# Altium footprint library TRANS_ETD_34.PcbLib: 1 footprints
Each footprint in its own frame and in the unit in brackets; x right, y up, seen from the top. Pads: shape width x height; smd on the part's side, far side on the other; paste and mask are expansions set on the pad; w line width, h text height; cw(c..) or ccw(c..) is an arc to the next point about the centre after c.
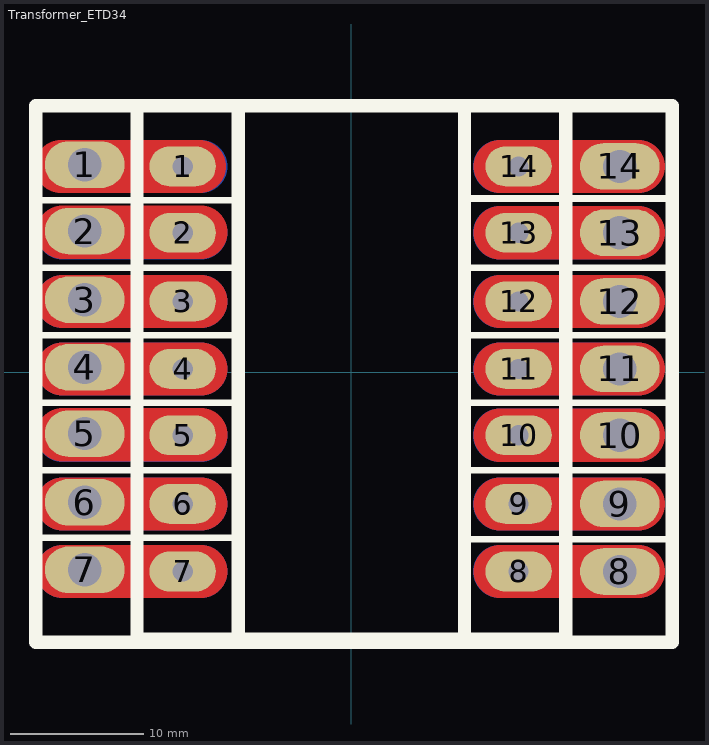
[diagram p0: the footprint, top view; thin cyan lines are the x and y axes]

## Transformer_ETD34 [mm]
pads (28):
  oval 6x3.5 hole 2.5: 1(-20.066,15.621) 2(-20.066,10.627) 3(-20.066,5.461) 4(-20.066,0.381) 5(-20.066,-4.613) 6(-20.066,-9.779) 7(-20.066,-14.859) 8(20.193,-14.986) 9(20.193,-9.906) 10(20.193,-4.74) 11(20.193,0.254) 12(20.193,5.334) 13(20.193,10.5) 14(20.193,15.494)
  oval 5x3 hole 1.524: 1(-12.7,15.494) 2(-12.7,10.5) 3(-12.7,5.334) 4(-12.7,0.254) 5(-12.7,-4.74) 6(-12.7,-9.906) 7(-12.7,-14.986) 8(12.573,-14.986) 9(12.573,-9.906) 10(12.573,-4.74) 11(12.573,0.254) 12(12.573,5.334) 13(12.573,10.5) 14(12.573,15.494)
Top Layer:
  lines w4: -21.844,15.494 -11.447,15.494 ; -21.717,-14.986 -11.32,-14.986 ; -21.717,-9.906 -11.32,-9.906 ; -21.717,-4.699 -11.32,-4.699 ; -21.717,0.254 -11.32,0.254 ; -21.717,5.334 -11.32,5.334 ; -21.717,10.541 -11.32,10.541 ; 11.176,-14.986 21.573,-14.986 ; 11.176,-9.906 21.573,-9.906 ; 11.176,-4.74 21.573,-4.74 ; 11.176,0.254 21.573,0.254 ; 11.176,5.334 21.573,5.334 ; 11.176,10.5 21.573,10.5 ; 11.176,15.494 21.573,15.494
Bottom Layer:
  lines w4: -21.734,-14.986 -11.337,-14.986 ; -21.734,-9.906 -11.337,-9.906 ; -21.734,-4.74 -11.337,-4.74 ; -21.734,0.254 -11.337,0.254 ; -21.734,5.334 -11.337,5.334 ; -21.734,10.5 -11.337,10.5 ; -21.734,15.494 -11.337,15.494 ; 11.159,-14.986 21.556,-14.986 ; 11.159,-9.906 21.556,-9.906 ; 11.159,-4.74 21.556,-4.74 ; 11.159,0.254 21.556,0.254 ; 11.159,5.334 21.556,5.334 ; 11.159,10.5 21.556,10.5 ; 11.159,15.494 21.556,15.494
Top Overlay:
  lines w0.5: -23.622,-12.446 -8.509,-12.446 ; -23.622,-7.366 -8.509,-7.366 ; -23.622,12.954 -8.509,12.954 ; -23.495,-2.286 -8.382,-2.286 ; -23.495,2.794 -8.382,2.794 ; -23.495,7.874 -8.382,7.874 ; 8.509,-12.573 23.622,-12.573 ; 8.509,-7.366 23.622,-7.366 ; 8.509,-2.286 23.622,-2.286 ; 8.509,2.794 23.622,2.794 ; 8.509,7.874 23.622,7.874 ; 8.509,13.081 23.622,13.081
  lines w1: -23.749,-20.32 24.13,-20.32 24.13,20.066 -23.749,20.066 -23.749,-20.32 ; -16.129,-20.066 16.129,-20.066 16.129,20.066 -16.129,20.066 -16.129,-20.066 ; -8.509,-20.066 8.509,-20.066 8.509,20.066 -8.509,20.066 -8.509,-20.066
Bottom Overlay:
  lines w1: -23.622,-20.32 23.876,-20.32 23.876,20.066 -23.622,20.066 -23.622,-20.32
3D body "ETD34.STEP": height 34.58, standoff -1.62, extent -20.106,-20 20.106,20